# EAGLE library part LAN8742A-CZ (library LAN8742A-CZ)
24-pin, high-performance 10/100 Ethernet transceiver, 3.3V supply
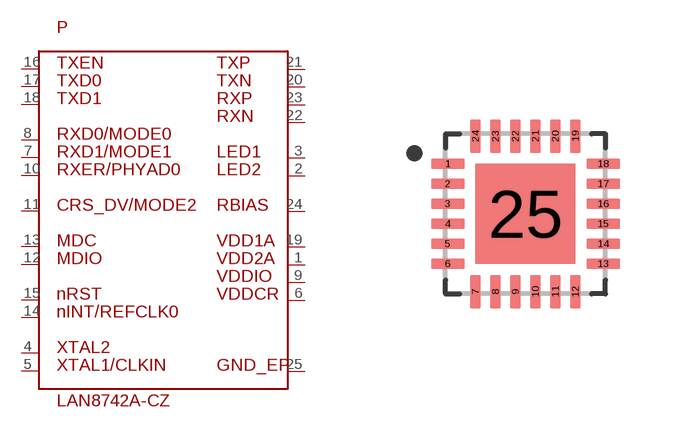
[diagram p0: symbol with the pads of LAN8742A-CZ; footprint LAN8742A-CZ]

Designator prefix P

## LAN8742A-CZ (A_MAX: 1.0; A_MIN: 0.8; A_NOM: 0.9; B_MAX: 0.3; B_MIN: 0.18; B_NOM: 0.24; D2_MAX: 2.6; D2_MIN: 2.4; D2_NOM: 2.5; D_MAX: 4.1; D_MIN: 3.9; D_NOM: 4.0; E2_MAX: 2.6; E2_MIN: 2.4; E2_NOM: 2.5; ENOM: 0.5; E_MAX: 4.1; E_MIN: 3.9; E_NOM: 4.0; L_MAX: 0.45; L_MIN: 0.35; L_NOM: 0.4; MANUFACTURER: Microchip; PIN_COUNT_D: 6.0; PIN_COUNT_E: 6.0; SNAPEDA_PACKAGE_ID: 37385)  [LAN8742A-CZ]
1  P$17
2  P$20
3  P$21
4  P$12
5  P$13
6  P$15
7  P$5
8  P$4
9  P$16
10  P$6
11  P$7
12  P$9
13  P$8
14  P$11
15  P$10
16  P$1
17  P$2
18  P$3
19  P$18
20  P$24
21  P$25
22  P$22
23  P$23
24  P$19
25  P$14

## Footprint LAN8742A-CZ (pad centres in mm)
smd 0.84 x 0.26: 1 -1.945,1.25; 2 -1.945,0.75; 3 -1.945,0.25; 4 -1.945,-0.25; 5 -1.945,-0.75; 6 -1.945,-1.25; 13 1.945,-1.25; 14 1.945,-0.75; 15 1.945,-0.25; 16 1.945,0.25; 17 1.945,0.75; 18 1.945,1.25
smd 0.26 x 0.84: 7 -1.25,-1.945; 8 -0.75,-1.945; 9 -0.25,-1.945; 10 0.25,-1.945; 11 0.75,-1.945; 12 1.25,-1.945; 19 1.25,1.945; 20 0.75,1.945; 21 0.25,1.945; 22 -0.25,1.945; 23 -0.75,1.945; 24 -1.25,1.945
smd 2.5 x 2.5: 25 0,0